# Altium footprint library Devices.PcbLib: 190 footprints (part 5 of 12)
Each footprint in its own frame and in the unit in brackets; x right, y up, seen from the top. Pads: shape width x height; smd on the part's side, far side on the other; paste and mask are expansions set on the pad; w line width, h text height; cw(c..) or ccw(c..) is an arc to the next point about the centre after c.
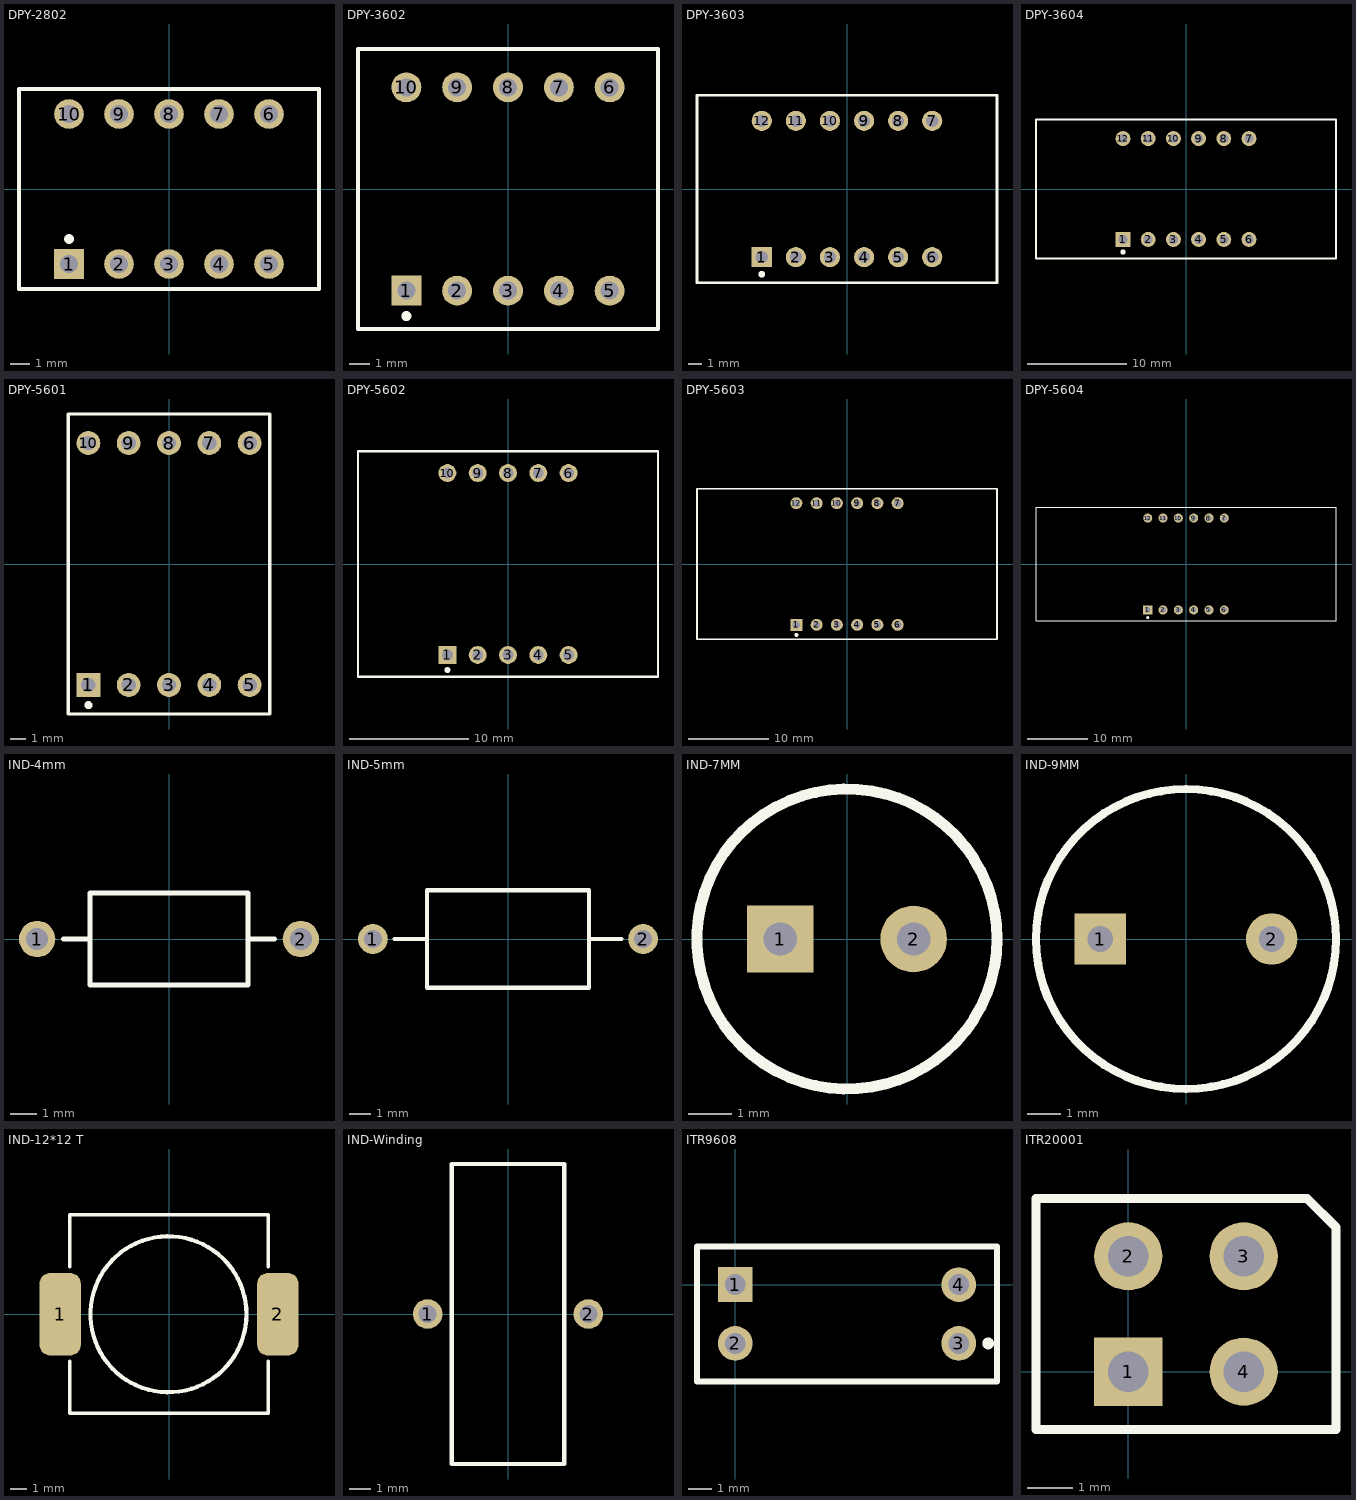
[diagram p4: the footprints below, top view; thin cyan lines are the x and y axes]

## DPY-2802 [mm]
height 7.8
pads (10):
  rect 1.5x1.5 hole 0.9: 1(-5.08,-3.81)
  round 1.5 hole 0.9: 2(-2.54,-3.81) 3(0,-3.81) 4(2.54,-3.81) 5(5.08,-3.81) 6(5.08,3.81) 7(2.54,3.81) 8(0,3.81) 9(-2.54,3.81) 10(-5.08,3.81)
Top Overlay:
  circle w0.25: c-5.078,-2.54 r0.125
  lines w0.2: -7.62,-5.08 -7.62,5.08 7.62,5.08 7.62,-5.08 -7.62,-5.08

## DPY-3602 [mm]
height 7.8
pads (10):
  rect 1.5x1.5 hole 0.9: 1(-5.08,-5.08)
  round 1.5 hole 0.9: 2(-2.54,-5.08) 3(0,-5.08) 4(2.54,-5.08) 5(5.08,-5.08) 6(5.08,5.08) 7(2.54,5.08) 8(0,5.08) 9(-2.54,5.08) 10(-5.08,5.08)
Top Overlay:
  circle w0.25: c-5.078,-6.35 r0.125
  lines w0.2: -7.493,-6.985 -7.493,6.985 7.493,6.985 7.493,-6.985 -7.493,-6.985

## DPY-3603 [mm]
height 7.8
pads (12):
  rect 1.5x1.5 hole 0.9: 1(-6.35,-5.08)
  round 1.5 hole 0.9: 2(-3.81,-5.08) 3(-1.27,-5.08) 4(1.27,-5.08) 5(3.81,-5.08) 6(6.35,-5.08) 7(6.35,5.08) 8(3.81,5.08) 9(1.27,5.08) 10(-1.27,5.08) 11(-3.81,5.08) 12(-6.35,5.08)
Top Overlay:
  circle w0.25: c-6.348,-6.35 r0.125
  lines w0.2: -11.176,-6.985 -11.176,6.985 11.176,6.985 11.176,-6.985 -11.176,-6.985

## DPY-3604 [mm]
height 7.8
pads (12):
  rect 1.5x1.5 hole 0.9: 1(-6.35,-5.08)
  round 1.5 hole 0.9: 2(-3.81,-5.08) 3(-1.27,-5.08) 4(1.27,-5.08) 5(3.81,-5.08) 6(6.35,-5.08) 7(6.35,5.08) 8(3.81,5.08) 9(1.27,5.08) 10(-1.27,5.08) 11(-3.81,5.08) 12(-6.35,5.08)
Top Overlay:
  circle w0.25: c-6.348,-6.35 r0.125
  lines w0.2: -15.113,-6.985 -15.113,6.985 15.113,6.985 15.113,-6.985 -15.113,-6.985

## DPY-5601 [mm]
height 7.8
pads (10):
  rect 1.5x1.5 hole 0.9: 1(-5.08,-7.62)
  round 1.5 hole 0.9: 2(-2.54,-7.62) 3(0,-7.62) 4(2.54,-7.62) 5(5.08,-7.62) 6(5.08,7.62) 7(2.54,7.62) 8(0,7.62) 9(-2.54,7.62) 10(-5.08,7.62)
Top Overlay:
  circle w0.25: c-5.078,-8.89 r0.125
  lines w0.2: -6.35,-9.45 6.35,-9.45 6.35,9.45 -6.35,9.45 -6.35,-9.45

## DPY-5602 [mm]
height 7.8
pads (10):
  rect 1.5x1.5 hole 0.9: 1(-5.08,-7.62)
  round 1.5 hole 0.9: 2(-2.54,-7.62) 3(0,-7.62) 4(2.54,-7.62) 5(5.08,-7.62) 6(5.08,7.62) 7(2.54,7.62) 8(0,7.62) 9(-2.54,7.62) 10(-5.08,7.62)
Top Overlay:
  circle w0.25: c-5.078,-8.89 r0.125
  lines w0.2: -12.573,-9.45 12.573,-9.45 12.573,9.45 -12.573,9.45 -12.573,-9.45

## DPY-5603 [mm]
height 7.8
pads (12):
  rect 1.5x1.5 hole 0.9: 1(-6.35,-7.62)
  round 1.5 hole 0.9: 2(-3.81,-7.62) 3(-1.27,-7.62) 4(1.27,-7.62) 5(3.81,-7.62) 6(6.35,-7.62) 7(6.35,7.62) 8(3.81,7.62) 9(1.27,7.62) 10(-1.27,7.62) 11(-3.81,7.62) 12(-6.35,7.62)
Top Overlay:
  circle w0.25: c-6.348,-8.89 r0.125
  lines w0.2: -18.796,-9.45 18.796,-9.45 18.796,9.45 -18.796,9.45 -18.796,-9.45

## DPY-5604 [mm]
height 7.8
pads (12):
  rect 1.5x1.5 hole 0.9: 1(-6.35,-7.62)
  round 1.5 hole 0.9: 2(-3.81,-7.62) 3(-1.27,-7.62) 4(1.27,-7.62) 5(3.81,-7.62) 6(6.35,-7.62) 7(6.35,7.62) 8(3.81,7.62) 9(1.27,7.62) 10(-1.27,7.62) 11(-3.81,7.62) 12(-6.35,7.62)
Top Overlay:
  circle w0.25: c-6.348,-8.89 r0.125
  lines w0.2: -24.892,-9.45 24.892,-9.45 24.892,9.45 -24.892,9.45 -24.892,-9.45

## IND-4mm [mm]
pads (2):
  round 1.4 hole 0.85: 1(-5.08,0) 2(5.08,0)
Top Overlay:
  lines w0.2: -4.064,0 -3.048,0 ; 3.048,0 4.064,0 ; -3.048,-1.778 3.048,-1.778 3.048,1.778 -3.048,1.778 -3.048,-1.778

## IND-5mm [mm]
pads (2):
  round 1.4 hole 0.85: 1(-6.35,0) 2(6.35,0)
Top Overlay:
  lines w0.2: -5.334,0 -3.81,0 ; 3.81,0 5.334,0 ; -3.81,-2.286 3.81,-2.286 3.81,2.286 -3.81,2.286 -3.81,-2.286

## IND-7MM [mil]
pads (2):
  rect 60x60 hole 30: 1(-60,0)
  round 60 hole 30: 2(60,0)
Top Overlay:
  circle w9.84: c0,0 r135

## IND-9MM [mil]
pads (2):
  rect 60x60 hole 30: 1(-100,0)
  round 60 hole 30: 2(100,0)
Top Overlay:
  circle w9.84: c0,0 r175

## IND-12*12 T [mm] "SOD-123; 2 Leads; Body 2.7 x 1.6 mm, (LxW)"
height 1.35
pads (2):
  rrect50% 2.5x5 smd: 1(-6.604,0) 2(6.604,0)
Top Overlay:
  circle w0.254: c-0.035,0 r4.734
  lines w0.2: -6.032,-2.84 -6.032,-6.015 6.032,-6.015 6.032,-2.84 ; -6.032,2.875 -6.032,6.05 6.032,6.05 6.032,2.875

## IND-Winding [mm]
pads (2):
  round 1.4 hole 0.85: 1(-3.81,0) 2(3.81,0)
Top Overlay:
  lines w0.2: -2.667,-7.112 -2.667,7.112 2.667,7.112 2.667,-7.112 -2.667,-7.112

## ITR9608 [mm]
pads (4):
  rect 1.5x1.5 hole 0.9: 1(0,0)
  round 1.5 hole 0.9: 2(0,-2.54) 3(9.652,-2.54) 4(9.652,0)
Top Overlay:
  circle w0.254: c10.922,-2.54 r0.127
  lines w0.254: -1.651,-4.191 11.303,-4.191 11.303,1.651 -1.651,1.651 -1.651,-4.191

## ITR20001 [mm]
pads (4):
  rect 1.5x1.5 hole 0.9: 1(0,0)
  round 1.5 hole 0.9: 2(0,2.54) 3(2.54,2.54) 4(2.54,0)
Top Overlay:
  lines w0.2: -2.032,-1.27 -2.032,3.81 3.937,3.81 4.572,3.175 4.572,-1.27 -2.032,-1.27